# Altium integrated library WD Peripheral Disk-Tape Support Circuit.IntLib: 10 symbols
Pins are listed as number, name and electrical type; pins without a type are passive.

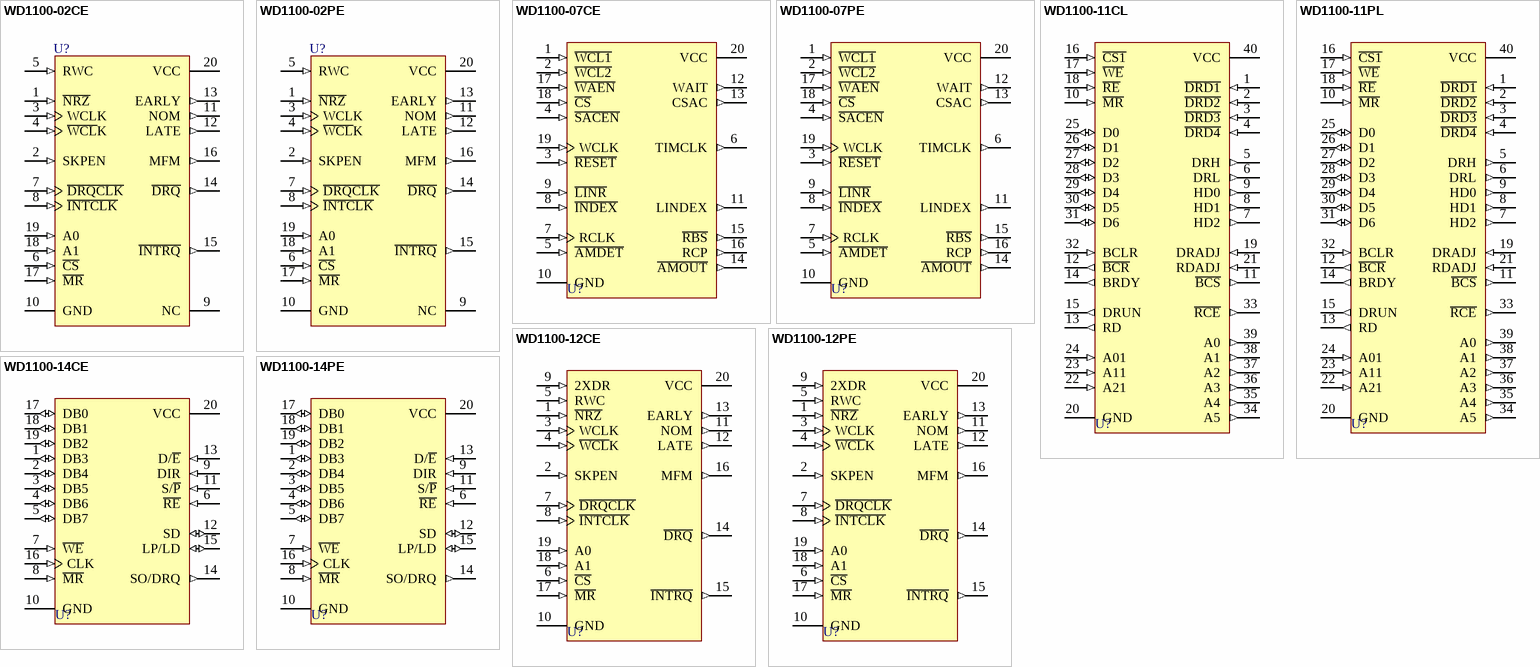
[diagram p0: symbols WD1100-02CE to WD1100-14PE]

## WD1100-02CE
designator U?
MFM Generator; PackageDocument: 1984; Published: 8-Jun-2000; LatestRevisionDate: 4-Mar-2005; LatestRevisionNote: Stylized 3D Model Added.; DatasheetDocument: 1984; PackageReference: CE20; Publisher: Altium Limited; ComponentLink1Description: Manufacturer Link; ComponentLink1URL: http://www.wdc.com/
footprint CE20 (DIP; 20 Leads; Row Spacing 7.62 mm; Pitch 2.54 mm)
3D model CE20 (DIP; 20 Leads; Row Spacing 7.62 mm; Pitch 2.54 mm)
pins: 1 ~{NRZ} (in), 2 SKPEN (in), 3 WCLK (in), 4 ~{WCL}K (in), 5 RWC (in), 6 ~{CS} (in), 7 ~{DRQCLK} (in), 8 ~{INTCLK} (in), 9 NC, 10 GND (power), 11 NOM (out), 12 LATE (out), 13 EARLY (out), 14 ~{DRQ} (out), 15 ~{INTRQ} (out), 16 MFM (out), 17 ~{MR} (in), 18 A1 (in), 19 A0 (in), 20 VCC (power)

## WD1100-02PE
designator U?
MFM Generator; PackageDocument: 1984; Published: 8-Jun-2000; LatestRevisionDate: 4-Mar-2005; LatestRevisionNote: Stylized 3D Model Added.; DatasheetDocument: 1984; PackageReference: PE20; Publisher: Altium Limited; ComponentLink1Description: Manufacturer Link; ComponentLink1URL: http://www.wdc.com/; Code_JEDEC: MS-001-AD
footprint PE20 (DIP; 20 Leads; Row Spacing 7.62 mm; Pitch 2.54 mm)
3D model PE20 (DIP; 20 Leads; Row Spacing 7.62 mm; Pitch 2.54 mm)
pins: 1 ~{NRZ} (in), 2 SKPEN (in), 3 WCLK (in), 4 ~{WCL}K (in), 5 RWC (in), 6 ~{CS} (in), 7 ~{DRQCLK} (in), 8 ~{INTCLK} (in), 9 NC, 10 GND (power), 11 NOM (out), 12 LATE (out), 13 EARLY (out), 14 ~{DRQ} (out), 15 ~{INTRQ} (out), 16 MFM (out), 17 ~{MR} (in), 18 A1 (in), 19 A0 (in), 20 VCC (power)

## WD1100-07CE
designator U?
Host Interface Logic; PackageDocument: 1984; Published: 8-Jun-2000; LatestRevisionDate: 4-Mar-2005; LatestRevisionNote: Stylized 3D Model Added.; DatasheetDocument: 1984; PackageReference: CE20; Publisher: Altium Limited; ComponentLink1Description: Manufacturer Link; ComponentLink1URL: http://www.wdc.com/
footprint CE20 (DIP; 20 Leads; Row Spacing 7.62 mm; Pitch 2.54 mm)
3D model CE20 (DIP; 20 Leads; Row Spacing 7.62 mm; Pitch 2.54 mm)
pins: 1 ~{WCL1} (in), 2 ~{WCL2} (in), 3 ~{RESET} (in), 4 ~{SACEN} (in), 5 ~{AMDET} (in), 6 TIMCLK (out), 7 RCLK (in), 8 ~{INDEX} (in), 9 ~{LINR} (in), 10 GND (power), 11 LINDEX (out), 12 WAIT (out), 13 CSAC (out), 14 ~{AMOUT} (out), 15 ~{RBS} (out), 16 RCP (out), 17 ~{WAEN} (in), 18 ~{CS} (in), 19 WCLK (in), 20 VCC (power)

## WD1100-07PE
designator U?
Host Interface Logic; PackageDocument: 1984; Published: 8-Jun-2000; LatestRevisionDate: 4-Mar-2005; LatestRevisionNote: Stylized 3D Model Added.; DatasheetDocument: 1984; PackageReference: PE20; Publisher: Altium Limited; ComponentLink1Description: Manufacturer Link; ComponentLink1URL: http://www.wdc.com/; Code_JEDEC: MS-001-AD
footprint PE20 (DIP; 20 Leads; Row Spacing 7.62 mm; Pitch 2.54 mm)
3D model PE20 (DIP; 20 Leads; Row Spacing 7.62 mm; Pitch 2.54 mm)
pins: 1 ~{WCL1} (in), 2 ~{WCL2} (in), 3 ~{RESET} (in), 4 ~{SACEN} (in), 5 ~{AMDET} (in), 6 TIMCLK (out), 7 RCLK (in), 8 ~{INDEX} (in), 9 ~{LINR} (in), 10 GND (power), 11 LINDEX (out), 12 WAIT (out), 13 CSAC (out), 14 ~{AMOUT} (out), 15 ~{RBS} (out), 16 RCP (out), 17 ~{WAEN} (in), 18 ~{CS} (in), 19 WCLK (in), 20 VCC (power)

## WD1100-11CL
designator U?
Buffer Manager Support Chip; PackageDocument: 1984; Published: 8-Jun-2000; LatestRevisionDate: 4-Mar-2005; LatestRevisionNote: Stylized 3D Model Added.; DatasheetDocument: 1984; PackageReference: CL40; Publisher: Altium Limited; ComponentLink1Description: Manufacturer Link; ComponentLink1URL: http://www.wdc.com/
footprint CL40 (DIP; 40 Leads; Row Spacing 15.24 mm; Pitch 2.54 mm)
3D model PL40 (DIP; 40 Leads; Row Spacing 15.24 mm; Pitch 2.54 mm)
pins: 1 ~{DRD1} (in), 2 ~{DRD2} (in), 3 ~{DRD3} (in), 4 ~{DRD4} (in), 5 DRH (out), 6 DRL (out), 7 HD2 (out), 8 HD1 (out), 9 HD0 (out), 10 ~{MR} (in), 11 ~{BCS} (out), 12 ~{BCR} (out), 13 RD (out), 14 BRDY (out), 15 DRUN (out), 16 ~{CS1} (in), 17 ~{WE} (in), 18 ~{RE} (in), 19 DRADJ (in), 20 GND (power), 21 RDADJ (in), 22 A21 (in), 23 A11 (in), 24 A01 (in), 25 D0 (io), 26 D1 (io), 27 D2 (io), 28 D3 (io), 29 D4 (io), 30 D5 (io), 31 D6 (io), 32 BCLR (in), 33 ~{RCE} (out), 34 A5 (out), 35 A4 (out), 36 A3 (out), 37 A2 (out), 38 A1 (out), 39 A0 (out), 40 VCC (power)

## WD1100-11PL
designator U?
Buffer Manager Support Chip; PackageDocument: 1984; Published: 8-Jun-2000; LatestRevisionDate: 4-Mar-2005; LatestRevisionNote: Stylized 3D Model Added.; DatasheetDocument: 1984; PackageReference: PL40; Publisher: Altium Limited; ComponentLink1Description: Manufacturer Link; ComponentLink1URL: http://www.wdc.com/
footprint PL40 (DIP; 40 Leads; Row Spacing 15.24 mm; Pitch 2.54 mm)
3D model PL40 (DIP; 40 Leads; Row Spacing 15.24 mm; Pitch 2.54 mm)
pins: 1 ~{DRD1} (in), 2 ~{DRD2} (in), 3 ~{DRD3} (in), 4 ~{DRD4} (in), 5 DRH (out), 6 DRL (out), 7 HD2 (out), 8 HD1 (out), 9 HD0 (out), 10 ~{MR} (in), 11 ~{BCS} (out), 12 ~{BCR} (out), 13 RD (out), 14 BRDY (out), 15 DRUN (out), 16 ~{CS1} (in), 17 ~{WE} (in), 18 ~{RE} (in), 19 DRADJ (in), 20 GND (power), 21 RDADJ (in), 22 A21 (in), 23 A11 (in), 24 A01 (in), 25 D0 (io), 26 D1 (io), 27 D2 (io), 28 D3 (io), 29 D4 (io), 30 D5 (io), 31 D6 (io), 32 BCLR (in), 33 ~{RCE} (out), 34 A5 (out), 35 A4 (out), 36 A3 (out), 37 A2 (out), 38 A1 (out), 39 A0 (out), 40 VCC (power)

## WD1100-12CE
designator U?
Improved MFM Generator; PackageDocument: 1984; Published: 8-Jun-2000; LatestRevisionDate: 4-Mar-2005; LatestRevisionNote: Stylized 3D Model Added.; DatasheetDocument: 1984; PackageReference: CE20; Publisher: Altium Limited; ComponentLink1Description: Manufacturer Link; ComponentLink1URL: http://www.wdc.com/
footprint CE20 (DIP; 20 Leads; Row Spacing 7.62 mm; Pitch 2.54 mm)
3D model CE20 (DIP; 20 Leads; Row Spacing 7.62 mm; Pitch 2.54 mm)
pins: 1 ~{NRZ} (in), 2 SKPEN (in), 3 WCLK (in), 4 ~{WCL}K (in), 5 RWC (in), 6 ~{CS} (in), 7 ~{DRQCLK} (in), 8 ~{INTCLK} (in), 9 2XDR (in), 10 GND (power), 11 NOM (out), 12 LATE (out), 13 EARLY (out), 14 ~{DRQ} (out), 15 ~{INTRQ} (out), 16 MFM (out), 17 ~{MR} (in), 18 A1 (in), 19 A0 (in), 20 VCC (power)

## WD1100-12PE
designator U?
Improved MFM Generator; PackageDocument: 1984; Published: 8-Jun-2000; LatestRevisionDate: 4-Mar-2005; LatestRevisionNote: Stylized 3D Model Added.; DatasheetDocument: 1984; PackageReference: PE20; Publisher: Altium Limited; ComponentLink1Description: Manufacturer Link; ComponentLink1URL: http://www.wdc.com/; Code_JEDEC: MS-001-AD
footprint PE20 (DIP; 20 Leads; Row Spacing 7.62 mm; Pitch 2.54 mm)
3D model PE20 (DIP; 20 Leads; Row Spacing 7.62 mm; Pitch 2.54 mm)
pins: 1 ~{NRZ} (in), 2 SKPEN (in), 3 WCLK (in), 4 ~{WCL}K (in), 5 RWC (in), 6 ~{CS} (in), 7 ~{DRQCLK} (in), 8 ~{INTCLK} (in), 9 2XDR (in), 10 GND (power), 11 NOM (out), 12 LATE (out), 13 EARLY (out), 14 ~{DRQ} (out), 15 ~{INTRQ} (out), 16 MFM (out), 17 ~{MR} (in), 18 A1 (in), 19 A0 (in), 20 VCC (power)

## WD1100-14CE
designator U?
Programmable Polynomial Generator; PackageDocument: 1984; Published: 8-Jun-2000; LatestRevisionDate: 4-Mar-2005; LatestRevisionNote: Stylized 3D Model Added.; DatasheetDocument: 1984; PackageReference: CE20; Publisher: Altium Limited; ComponentLink1Description: Manufacturer Link; ComponentLink1URL: http://www.wdc.com/
footprint CE20 (DIP; 20 Leads; Row Spacing 7.62 mm; Pitch 2.54 mm)
3D model CE20 (DIP; 20 Leads; Row Spacing 7.62 mm; Pitch 2.54 mm)
pins: 1 DB3 (io), 2 DB4 (io), 3 DB5 (io), 4 DB6 (io), 5 DB7 (io), 6 ~{RE} (in), 7 ~{WE} (in), 8 ~{MR} (in), 9 DIR (in), 10 GND (power), 11 S/~{P} (in), 12 SD (io), 13 D/~{E} (in), 14 SO/DRQ (out), 15 LP/LD (io), 16 CLK (in), 17 DB0 (io), 18 DB1 (io), 19 DB2 (io), 20 VCC (power)

## WD1100-14PE
designator U?
Programmable Polynomial Generator; PackageDocument: 1984; Published: 8-Jun-2000; LatestRevisionDate: 4-Mar-2005; LatestRevisionNote: Stylized 3D Model Added.; DatasheetDocument: 1984; PackageReference: PE20; Publisher: Altium Limited; ComponentLink1Description: Manufacturer Link; ComponentLink1URL: http://www.wdc.com/; Code_JEDEC: MS-001-AD
footprint PE20 (DIP; 20 Leads; Row Spacing 7.62 mm; Pitch 2.54 mm)
3D model PE20 (DIP; 20 Leads; Row Spacing 7.62 mm; Pitch 2.54 mm)
pins: 1 DB3 (io), 2 DB4 (io), 3 DB5 (io), 4 DB6 (io), 5 DB7 (io), 6 ~{RE} (in), 7 ~{WE} (in), 8 ~{MR} (in), 9 DIR (in), 10 GND (power), 11 S/~{P} (in), 12 SD (io), 13 D/~{E} (in), 14 SO/DRQ (out), 15 LP/LD (io), 16 CLK (in), 17 DB0 (io), 18 DB1 (io), 19 DB2 (io), 20 VCC (power)